# Altium schematic symbol library FEV-60.SchLib: 6 symbols
Pins are listed as number, name and electrical type; pins without a type are passive.

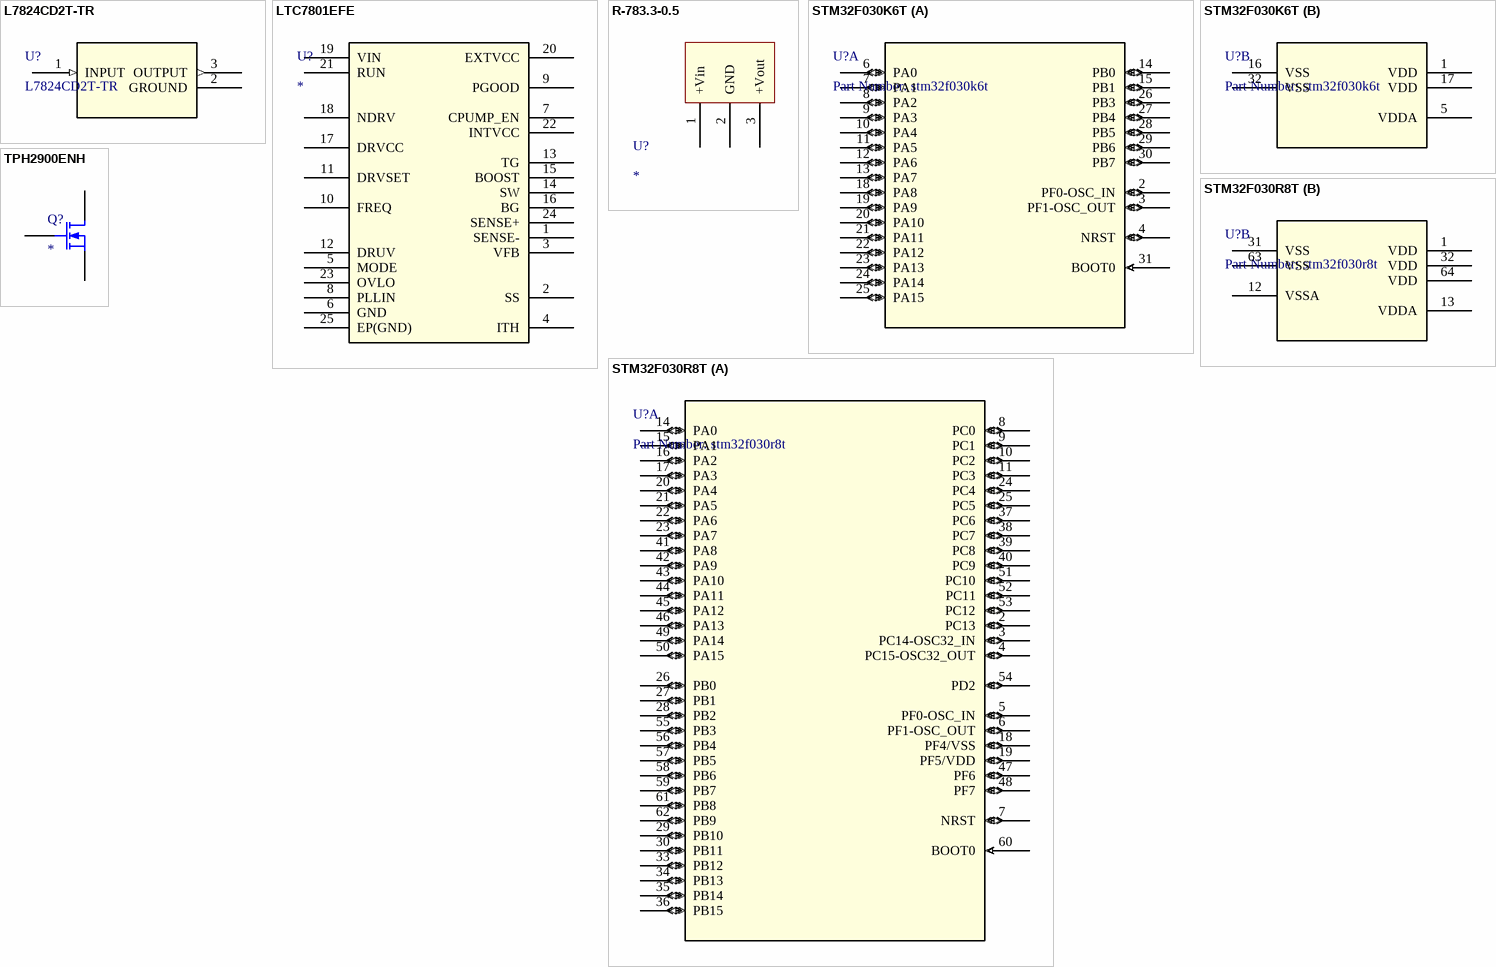
[diagram p0: symbols L7824CD2T-TR to TPH2900ENH]

## L7824CD2T-TR
designator U?
Linear Voltage Regulator IC  1 Output  1.5A D2PAK; Vendor: STMicroelectronics; Built_By: EMA_UL_Team; Manufacturer_Part_Number: L7824CD2T-TR; Copyright: Copyright (C) 2018 Accelerated Designs. All rights reserved; RefDes: RefDes; Type: DEV; Value: Value
footprint D2PAK
pins: 1 INPUT (in), 2 GROUND, 3 OUTPUT (out)

## LTC7801EFE
designator U?
Buck Regulator Positive Output Step-Down DC-DC Controller IC 24-TSSOP; Manufacturer: Analog Devices; Part Number: LTC7801EFE#PBF; Copyright: Copyright (C) 2018 Accelerated Designs. All rights reserved; RefDes: RefDes; Type: DEV; Value: Value
footprint LTC7801
pins: 1 SENSE-, 2 SS, 3 VFB, 4 ITH, 5 MODE, 6 GND, 7 CPUMP_EN, 8 PLLIN, 9 PGOOD, 10 FREQ, 11 DRVSET, 12 DRUV, 13 TG, 14 SW, 15 BOOST, 16 BG, 17 DRVCC, 18 NDRV, 19 VIN, 20 EXTVCC, 21 RUN, 22 INTVCC, 23 OVLO, 24 SENSE+, 25 EP(GND)

## R-783.3-0.5
designator U?
DC-DC Converter from 4.75-32V down to 3.3V.; Manufacturer: Recom Power; Part Number: R-783.3-0.5
footprint R-783.3-0.5
pins: 1 +Vin, 2 GND, 3 +Vout

## STM32F030K6T
designator U?, comment Part Number: stm32f030k6t
STM K6 Microprocessor; Manufacturer: STMicroelectronics; Copyright: Copyright (C) 2016 Accelerated Designs. All rights reserved; RefDes: RefDes; Type: DEV; Value: Value
footprint STM32F030K6
part A pins: 2 PF0-OSC_IN (io), 3 PF1-OSC_OUT (io), 4 NRST (io), 6 PA0 (io), 7 PA1 (io), 8 PA2 (io), 9 PA3 (io), 10 PA4 (io), 11 PA5 (io), 12 PA6 (io), 13 PA7 (io), 14 PB0 (io), 15 PB1 (io), 18 PA8 (io), 19 PA9 (io), 20 PA10 (io), 21 PA11 (io), 22 PA12 (io), 23 PA13 (io), 24 PA14 (io), 25 PA15 (io), 26 PB3 (io), 27 PB4 (io), 28 PB5 (io), 29 PB6 (io), 30 PB7 (io), 31 BOOT0 (in)
part B pins: 1 VDD (power), 5 VDDA (power), 16 VSS (power), 17 VDD (power), 32 VSS (power)

## STM32F030R8T
designator U?, comment Part Number: stm32f030r8t
STM R8 Microprocessor; Manufacturer: STMicroelectronics; Copyright: Copyright (C) 2016 Accelerated Designs. All rights reserved; RefDes: RefDes; Type: DEV; Value: Value
footprint STM32F030R8
part A pins: 2 PC13 (io), 3 PC14-OSC32_IN (io), 4 PC15-OSC32_OUT (io), 5 PF0-OSC_IN (io), 6 PF1-OSC_OUT (io), 7 NRST (io), 8 PC0 (io), 9 PC1 (io), 10 PC2 (io), 11 PC3 (io), 14 PA0 (io), 15 PA1 (io), 16 PA2 (io), 17 PA3 (io), 18 PF4/VSS (io), 19 PF5/VDD (io), 20 PA4 (io), 21 PA5 (io), 22 PA6 (io), 23 PA7 (io), 24 PC4 (io), 25 PC5 (io), 26 PB0 (io), 27 PB1 (io), 28 PB2 (io), 29 PB10 (io), 30 PB11 (io), 33 PB12 (io), 34 PB13 (io), 35 PB14 (io), 36 PB15 (io), 37 PC6 (io), 38 PC7 (io), 39 PC8 (io), 40 PC9 (io), 41 PA8 (io), 42 PA9 (io), 43 PA10 (io), 44 PA11 (io), 45 PA12 (io), 46 PA13 (io), 47 PF6 (io), 48 PF7 (io), 49 PA14 (io), 50 PA15 (io), 51 PC10 (io), 52 PC11 (io), 53 PC12 (io), 54 PD2 (io), 55 PB3 (io), 56 PB4 (io), 57 PB5 (io), 58 PB6 (io), 59 PB7 (io), 60 BOOT0 (in), 61 PB8 (io), 62 PB9 (io)
part B pins: 1 VDD (power), 12 VSSA (power), 13 VDDA (power), 31 VSS (power), 32 VDD (power), 63 VSS (power), 64 VDD (power)

## TPH2900ENH
designator Q?
N-Channel 200V 33A (Ta) 78W (Tc) Surface Mount 8-SOP Advance (5x5); Manufacturer: Toshiba; Part Number: TPH2900ENHL1QCT-ND; ComponentLink1Description: TPH2900ENH; ComponentLink1URL: https://www.digikey.com/product-detail/en/toshiba-semiconductor-and-storage/TPH2900ENHL1Q/TPH2900ENHL1QCT-ND/5456291
pins: 1 D, 2 G, 3 S